# Altium integrated library MergenElektronik_Inductors_PowerInductors_SMDs.IntLib: 2 symbols
Pins are listed as number, name and electrical type; pins without a type are passive.

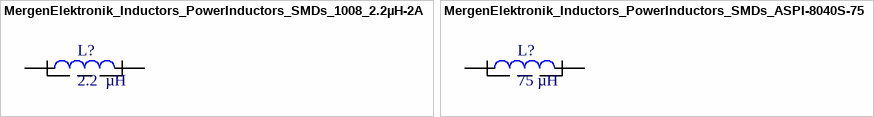
[diagram p0: symbols MergenElektronik_Inductors_PowerInductors_SMDs_1008_2.2µH-2A to MergenElektronik_Inductors_PowerInductors_SMDs_ASPI-8040S-750M-T]

## MergenElektronik_Inductors_PowerInductors_SMDs_1008_2.2µH-2A
designator L?, comment 2.2  µH
Mergen Elektronik - Inductors - Power Inductors - SMDs - 1008 - 2.2 µh - 2A; Manufacturer: Samsung Electro-Mechanics; Manufacturer Number: CIGT252008LM2R2MNE; Digi-Key Number: 1276-6925-1-ND; Model: Power Inductor; Mounting Type: Surface Mount; Package: 1008 (2520 Metric); Temperature: -40°C up to  125°C; Value: 2.2  µH; Current Rating: 2A; Mouser Number: 187-CIGT252008LM2R2M; Supplier 1: Digi-Key; Supplier 2: Mouser; Supplier Part Number 1: 1276-6925-6-ND; Supplier Part Number 2: 187-CIGT252008LM2R2M
footprint MergenElektronik_Inductors_PowerInductors_SMDs_1008_L (1008 Large)
footprint MergenElektronik_Inductors_PowerInductors_SMDs_1008_L_NS (1008 Large - No Silkscreen)
footprint MergenElektronik_Inductors_PowerInductors_SMDs_1008_M (1008 Medium)
footprint MergenElektronik_Inductors_PowerInductors_SMDs_1008_M_NS (1008 Medium - No Silkscreen)
footprint MergenElektronik_Inductors_PowerInductors_SMDs_1008_S (1008 Small)
footprint MergenElektronik_Inductors_PowerInductors_SMDs_1008_S_NS (1008 Small - No Silkscreen)
pins: 1, 2

## MergenElektronik_Inductors_PowerInductors_SMDs_ASPI-8040S-750M-T
designator L?, comment 75 µH
Mergen Elektronik - Inductors - Power Inductors - SMDs - 8x8mm  75-µh - 1.2A; Manufacturer: Abracon LLC; Manufacturer Number: ASPI-8040S-750M-T; Digi-Key Number: 535-13053-1-ND; Model: Power Inductor; Mounting Type: Surface Mount; Package: 8x8x4mm Shielded; Temperature: -40°C up to  125°C; Value: 75 µH; Current Rating: 1.2A; Mouser Number: 815-ASPI-8040S-750MT; Supplier 1: Digikey; Supplier 2: Mouser; Supplier Part Number 1: 535-13053-1-ND; Supplier Part Number 2: 815-ASPI-8040S-750MT
footprint MergenElektronik_Inductors_PowerInductors_SMDs_8x8x4mm_Shielded (8x8x4mm Shielded)
pins: 1, 2